# Altium footprint library Synthiam.PcbLib: 481 footprints (part 28 of 31)
Each footprint in its own frame and in the unit in brackets; x right, y up, seen from the top. Pads: shape width x height; smd on the part's side, far side on the other; paste and mask are expansions set on the pad; w line width, h text height; cw(c..) or ccw(c..) is an arc to the next point about the centre after c.
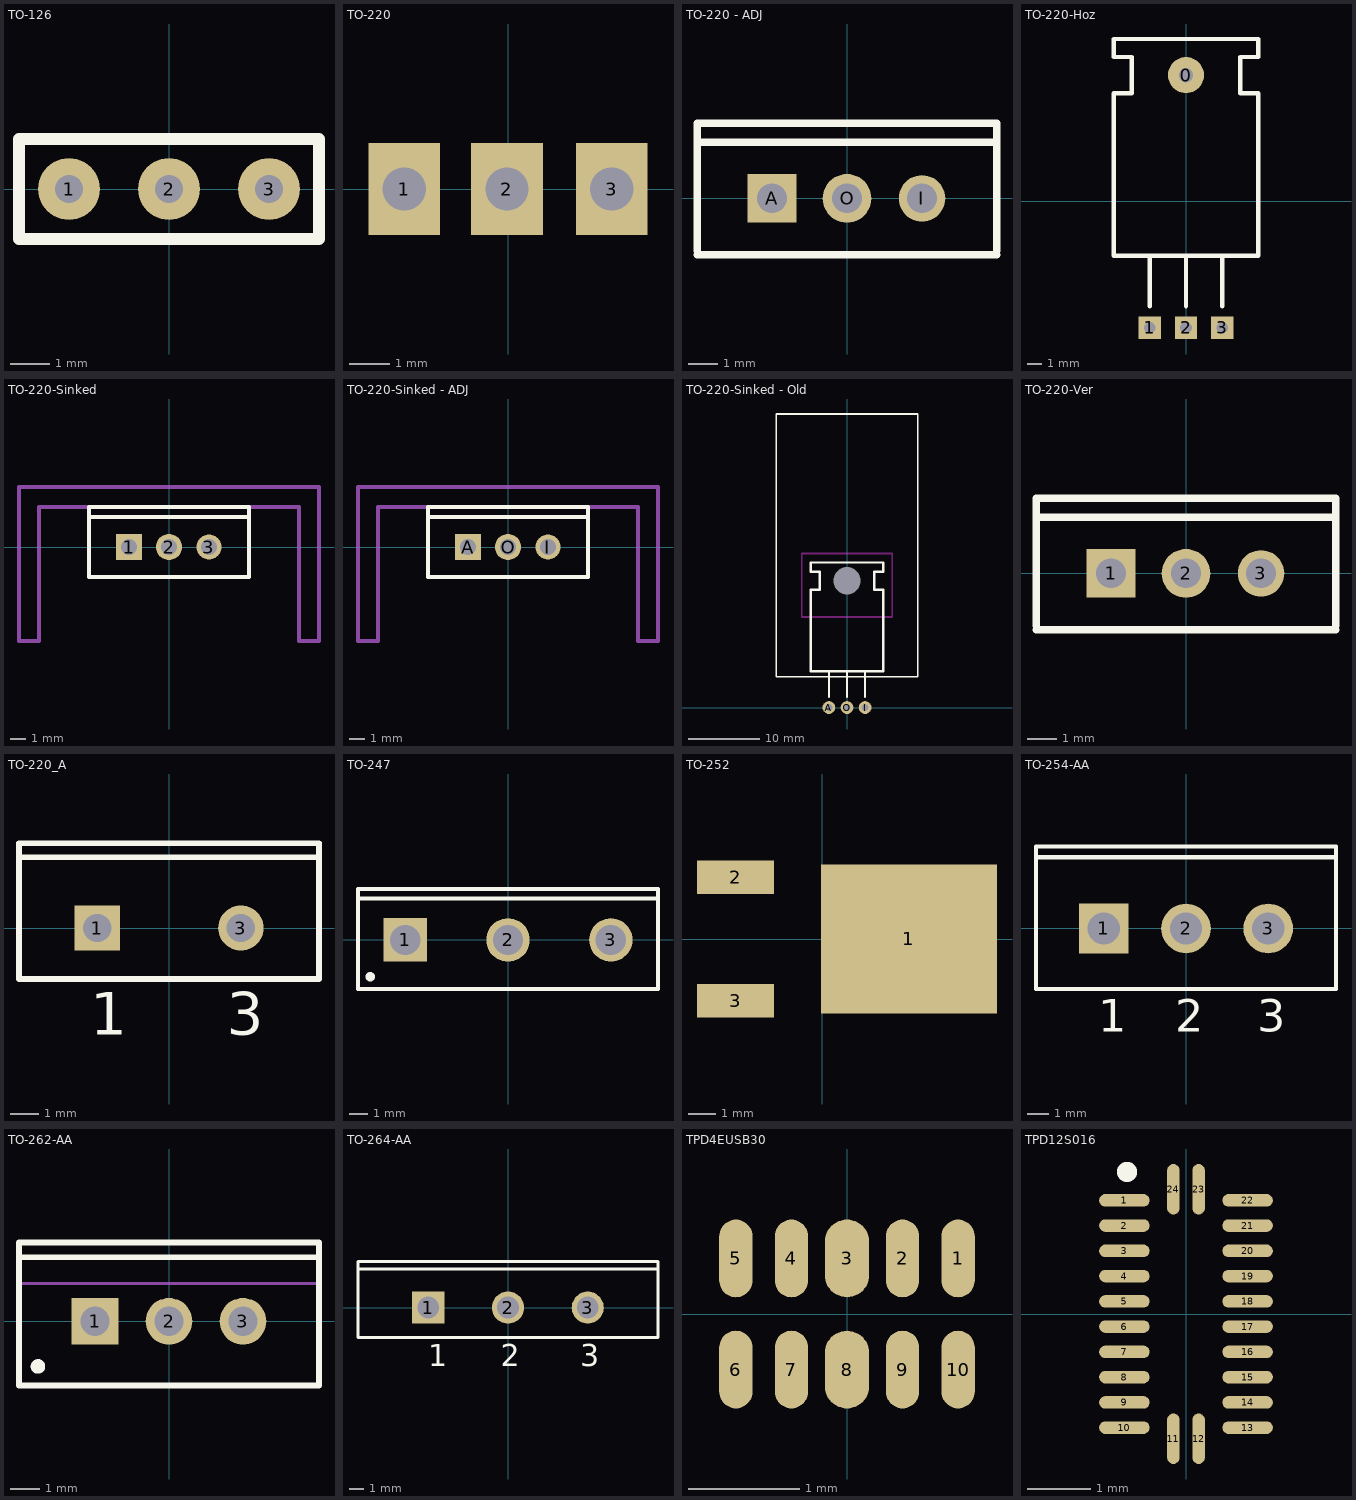
[diagram p27: the footprints below, top view; thin cyan lines are the x and y axes]

## TO-126 [mil]
pads (3):
  round 62 hole 28: 1(-100,0) 2(0,0) 3(100,0)
Top Overlay:
  lines w12: -150,-50 150,-50 150,50 -150,50 -150,-50

## TO-220 [mil]
pads (3):
  rect 70x90 hole 42: 1(-101,0) 2(-1,0) 3(101,0)

## TO-220 - ADJ [mil]
pads (3):
  rect 65x65 hole 39.4: A(-100,0)
  round 62 hole 39.4: I(100,0)
  round 65 hole 39.4: O(0,0)
Top Overlay:
  lines w10: -200,-75 200,-75 ; -200,-70 -200,100 200,100 200,-70 ; -200,75 200,75

## TO-220-Hoz [mil]
pads (4):
  round 100 hole 40: 0(0,350)
  rect 62x62 hole 32: 1(-100,-350) 2(0,-350) 3(100,-350)
Top Overlay:
  lines w12: -100,-290 -100,-150 ; 0,-290 0,-150 ; 100,-290 100,-150 ; -200,-150 -200,300 -150,300 -150,400 -200,400 -200,450 200,450 200,400 150,400 150,300 200,300 200,-150 -200,-150

## TO-220-Sinked [mil]
pads (3):
  rect 65x65 hole 39.4: 1(-100,0)
  round 65 hole 39.4: 2(0,0)
  round 62 hole 39.4: 3(100,0)
Top Overlay:
  lines w10: -200,-75 200,-75 ; -200,-70 -200,100 200,100 200,-70 ; -200,75 200,75
Mechanical 1:
  lines w10: -375,-235 -375,150 375,150 375,-235 325,-235 325,100 -325,100 -325,-235 -375,-235

## TO-220-Sinked - ADJ [mil]
pads (3):
  rect 65x65 hole 39.4: A(-100,0)
  round 62 hole 39.4: I(100,0)
  round 65 hole 39.4: O(0,0)
Top Overlay:
  lines w10: -200,-75 200,-75 ; -200,-70 -200,100 200,100 200,-70 ; -200,75 200,75
Mechanical 1:
  lines w10: -375,-235 -325,-235 -325,100 325,100 325,-235 375,-235 375,150 -375,150 -375,-235

## TO-220-Sinked - Old [mm]
pads (4):
  round 0 hole 3.81: 0(0,17.78)
  round 1.8 hole 1: A(-2.54,0) I(2.54,0) O(0,0)
Top Overlay:
  lines w0.254: -9.906,4.318 9.906,4.318 9.906,41.148 -9.906,41.148 -9.906,4.318
  lines w0.305: -2.54,1.524 -2.54,5.08 ; 0,1.524 0,5.08 ; 2.54,1.524 2.54,5.08 ; -5.08,5.08 5.08,5.08 5.08,16.51 3.81,16.51 3.81,19.05 5.08,19.05 5.08,20.32 -5.08,20.32 -5.08,19.05 -3.81,19.05 -3.81,16.51 -5.08,16.51 -5.08,5.08
Keep-Out Layer:
  lines w0.254: -6.35,21.557 -6.35,12.7 6.35,12.7 6.35,21.555 ; -6.35,21.59 6.35,21.59

## TO-220-Ver [mil] "TO-220 VReg - vertical package"
height 787.4
pads (3):
  rect 65x65 hole 39.4: 1(-100,0)
  round 65 hole 39.4: 2(0,0)
  round 62 hole 39.4: 3(100,0)
Top Overlay:
  lines w10: -200,-75 200,-75 ; -200,-70 -200,100 200,100 200,-70 ; -200,75 200,75

## TO-220_A [mm] "TO, Thru-Hole, Vertical, Heatsink Mounted; 3 In-Line Leads (1 Absent); Pitch 2.54 mm"
height 19.3
pads (2):
  rect 1.6x1.6 hole 1: 1(-2.54,0)
  round 1.6 hole 1: 3(2.54,0)
Top Overlay:
  lines w0.2: -5.3,2.5 5.3,2.5 ; -5.3,-1.8 5.3,-1.8 5.3,3 -5.3,3 -5.3,-1.8
  text "3" at 2.04,-3.775 h1.5
  text "1" at -2.79,-3.775 h1.5

## TO-247 [mm] "SIP with Mounting Hole; 3 Leads; Body 20 x 15.6 x 5 mm (typ); Pitch 5.45 mm"
height 24.6
pads (3):
  rect 2.3x2.3 hole 1.6: 1(-5.45,0)
  round 2.3 hole 1.6: 2(0,0) 3(5.45,0)
Top Overlay:
  circle w0.25: c-7.3,-1.95 r0.125
  lines w0.2: -7.95,2.2 7.95,2.2 ; -7.95,-2.6 -7.95,2.7 7.95,2.7 7.95,-2.6 -7.95,-2.6
Mechanical 13:
  lines w0.1: -7.95,-2.6 -7.95,2.7 7.95,2.7 7.95,-2.6 -7.95,-2.6
Mechanical 15:
  lines w0.1: -0.5,0 0.5,0 ; 0,-0.5 0,0.5
3D body: height 24.6, standoff 3.7, extent -7.949,-2.599 7.949,2.699

## TO-252 [mm]
pads (3):
  rect 6.5x5.5 smd: 1(3.2,0)
  rect 2.85x1.25 smd: 2(-3.2,2.28) 3(-3.2,-2.28)

## TO-254-AA [mm] "TO, Thru-Hole, Vertical, Heatsink Mounted; 3 In-Line Leads; Pitch 3.81 mm"
height 20.3
pads (3):
  rect 2.3x2.3 hole 1.5: 1(-3.81,0)
  round 2.3 hole 1.5: 2(0,0) 3(3.81,0)
Top Overlay:
  lines w0.2: -6.95,3.3 6.95,3.3 ; -6.95,-2.8 6.95,-2.8 6.95,3.8 -6.95,3.8 -6.95,-2.8
  text "1" at -4.06,-4.775 h1.5
  text "2" at -0.5,-4.775 h1.5
  text "3" at 3.31,-4.775 h1.5

## TO-262-AA [mm] "TO, Thru-Hole, Vertical, Heatsink Mounted; 3 In-Line Leads; Pitch 2.54 mm"
height 19.7
pads (3):
  rect 1.6x1.6 hole 1: 1(-2.54,0)
  round 1.6 hole 1: 2(0,0) 3(2.54,0)
Top Overlay:
  circle w0.25: c-4.5,-1.55 r0.125
  lines w0.2: -5.15,2.2 5.15,2.2 ; -5.15,-2.2 5.15,-2.2 5.15,2.7 -5.15,2.7 -5.15,-2.2
Mechanical 13:
  lines w0.1: -5.15,1.3 5.15,1.3 ; -5.15,-2.2 5.15,-2.2 5.15,2.7 -5.15,2.7 -5.15,-2.2
Mechanical 15:
  lines w0.1: -0.5,0 0.5,0 ; 0,-0.5 0,0.5
3D body: height 13.7, standoff 2.8, extent -5.2,-2.25 5.2,2.75
3D body: height 19.7, standoff 13.7, extent -5.149,1.301 5.149,2.699

## TO-264-AA [mm] "SIP with Mounting Hole; 3 Leads; Body 26 x 20 x 5 mm (typ); Pitch 5.45 mm"
height 29
pads (3):
  rect 2.2x2.2 hole 1.5: 1(-5.45,0)
  round 2.2 hole 1.5: 2(0,0) 3(5.45,0)
Top Overlay:
  lines w0.2: -10.25,2.65 10.25,2.65 ; -10.25,-2.05 -10.25,3.15 10.25,3.15 10.25,-2.05 -10.25,-2.05
  text "3" at 4.942,-4.025 h1.5
  text "2" at -0.508,-4.025 h1.5
  text "1" at -5.45,-4.025 h1.5
Mechanical 15:
  lines w0.1: -0.5,0 0.5,0 ; 0,-0.5 0,0.5

## TPD4EUSB30 [mm]
pads (10):
  oval 0.3x0.7 smd mask+0.05: 1(1,0.5) 2(0.5,0.5) 4(-0.5,0.5) 5(-1,0.5) 6(-1,-0.5) 7(-0.5,-0.5) 9(0.5,-0.5) 10(1,-0.5)
  oval 0.4x0.7 smd mask+0.05: 3(0,0.5) 8(0,-0.5)

## TPD12S016 [mm]
pads (24):
  oval 0.8x0.2 smd mask+0.1: 1(-0.975,1.8) 2(-0.975,1.4) 3(-0.975,1) 4(-0.975,0.6) 5(-0.975,0.2) 6(-0.975,-0.2) 7(-0.975,-0.6) 8(-0.975,-1) 9(-0.975,-1.4) 10(-0.975,-1.8) 13(0.975,-1.8) 14(0.975,-1.4) 15(0.975,-1) 16(0.975,-0.6) 17(0.975,-0.2) 18(0.975,0.2) 19(0.975,0.6) 20(0.975,1) 21(0.975,1.4) 22(0.975,1.8)
  oval 0.2x0.8 smd mask+0.1: 11(-0.2,-1.975) 12(0.2,-1.975) 23(0.2,1.975) 24(-0.2,1.975)
Top Overlay:
  circle w0.25: c-0.934,2.25 r0.034